# Altium schematic symbol library IC 7815.SchLib: 1 symbol
Pins are listed as number, name and electrical type; pins without a type are passive.

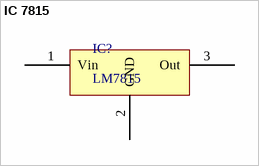
[diagram p0: symbol IC 7815]

## IC 7815
designator IC?, comment LM7815
footprint TO 220H (TO-220 Package)
pins: 1 Vin, 2 GND, 3 Out